# EAGLE library part LMC555CMX/NOPB (library LMC555CMX_NOPB)
Worlds smallest 555 timer with low power, high accuracy and a Fmax of 3MHz 8-SOIC -40 to 85 Check availability <https://pricing.snapeda.com/parts/LMC555CMX/Texas%20Instruments/view-part?ref=eda>
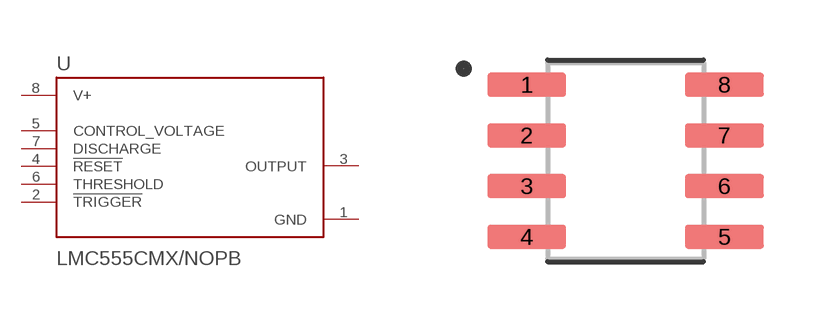
[diagram p0: symbol with the pads of SOIC127P599X175-8N; footprint SOIC127P599X175-8N]

Designator prefix U

## LMC555CMX/NOPB (Availability: In Stock; Description: Worlds smallest 555 timer with low power, high accuracy and a Fmax of 3MHz 8-SOIC -40 to 85; MF: Texas Instruments; MP: LMC555CMX; Package: SOIC-8 Texas Instruments; Price: None)  [SOIC127P599X175-8N]
1  GND  pwr
2  !TRIGGER!  in
3  OUTPUT  out
4  !RESET!  in
5  CONTROL_VOLTAGE  in
6  THRESHOLD  in
7  DISCHARGE  in
8  V+  pwr

## Footprint SOIC127P599X175-8N (pad centres in mm)
smd 1.97 x 0.6: 1 -2.47,1.905; 2 -2.47,0.635; 3 -2.47,-0.635; 4 -2.47,-1.905; 5 2.47,-1.905; 6 2.47,-0.635; 7 2.47,0.635; 8 2.47,1.905